# Altium schematic symbol library BSS138.SchLib: 1 symbol
Pins are listed as number, name and electrical type; pins without a type are passive.

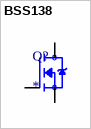
[diagram p0: symbol BSS138]

## BSS138
designator Q?
N-Channel 50V 220mA (Ta) 360mW (Ta) Surface Mount SOT-23-3; MP: BSS138; Price: None; Availability: Unavailable; Value: *; Package: None
footprint SOT95P240X111-3N
pins: 1 G, 2 S, 3 D